# EAGLE library part SX1278 (library SX1278)
IC RF TxRx Only 802.15.4 LoRa 137MHz - 525MHz 28-VQFN Exposed Pad Check availability <https://pricing.snapeda.com/parts/SX1278/Semtech/view-part?ref=eda>
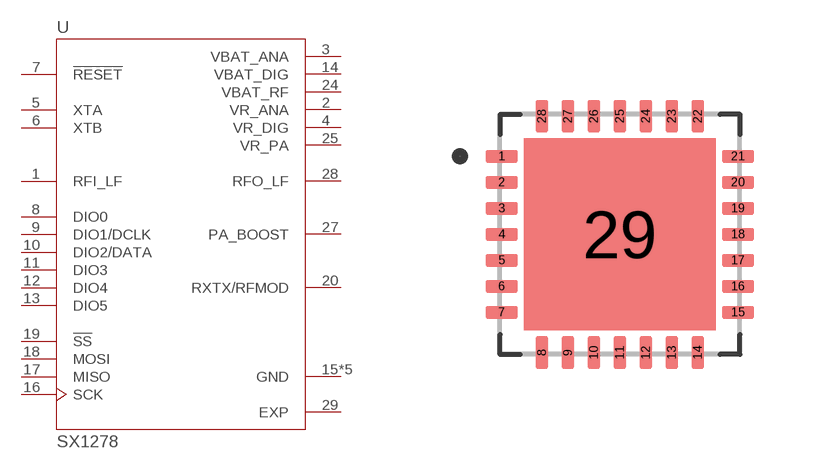
[diagram p0: symbol with the pads of QFN65P600X600X100-29N; footprint QFN65P600X600X100-29N]

Designator prefix U

## SX1278 (Availability: Not in stock; Check_prices: https://www.snapeda.com/parts/SX1278/Semtech/view-part/?ref=eda; Description: IC RF TxRx Only 802.15.4 LoRa™ 137MHz ~ 525MHz 28-VQFN Exposed Pad; MF: Semtech; MP: SX1278; Package: VQFN-28 Semtech Corporation; Price: None; SnapEDA_Link: https://www.snapeda.com/parts/SX1278/Semtech/view-part/?ref=snap)  [QFN65P600X600X100-29N]
1  RFI_LF  in
2  VR_ANA  pwr
3  VBAT_ANA  pwr
4  VR_DIG  pwr
5  XTA
6  XTB
7  !RESET
8  DIO0
9  DIO1/DCLK
10  DIO2/DATA
11  DIO3
12  DIO4
13  DIO5
14  VBAT_DIG  pwr
15  GND  pwr
16  SCK  in
17  MISO  out
18  MOSI  in
19  !SS  in
20  RXTX/RFMOD  out
21  GND  pwr
22  GND  pwr
23  GND  pwr
24  VBAT_RF  pwr
25  VR_PA  pwr
26  GND  pwr
27  PA_BOOST  out
28  RFO_LF  out
29  EXP  pwr

## Footprint QFN65P600X600X100-29N (pad centres in mm)
smd 0.81 x 0.32: 1 -2.955,1.95; 2 -2.955,1.3; 3 -2.955,0.65; 4 -2.955,0; 5 -2.955,-0.65; 6 -2.955,-1.3; 7 -2.955,-1.95; 15 2.955,-1.95; 16 2.955,-1.3; 17 2.955,-0.65; 18 2.955,0; 19 2.955,0.65; 20 2.955,1.3; 21 2.955,1.95
smd 0.32 x 0.81: 8 -1.95,-2.955; 9 -1.3,-2.955; 10 -0.65,-2.955; 11 0,-2.955; 12 0.65,-2.955; 13 1.3,-2.955; 14 1.95,-2.955; 22 1.95,2.955; 23 1.3,2.955; 24 0.65,2.955; 25 0,2.955; 26 -0.65,2.955; 27 -1.3,2.955; 28 -1.95,2.955
smd 4.8 x 4.8: 29 0,0